# Altium integrated library TI Data Converters Digital to Analog Converter.IntLib: 1533 symbols (part 4 of 99)
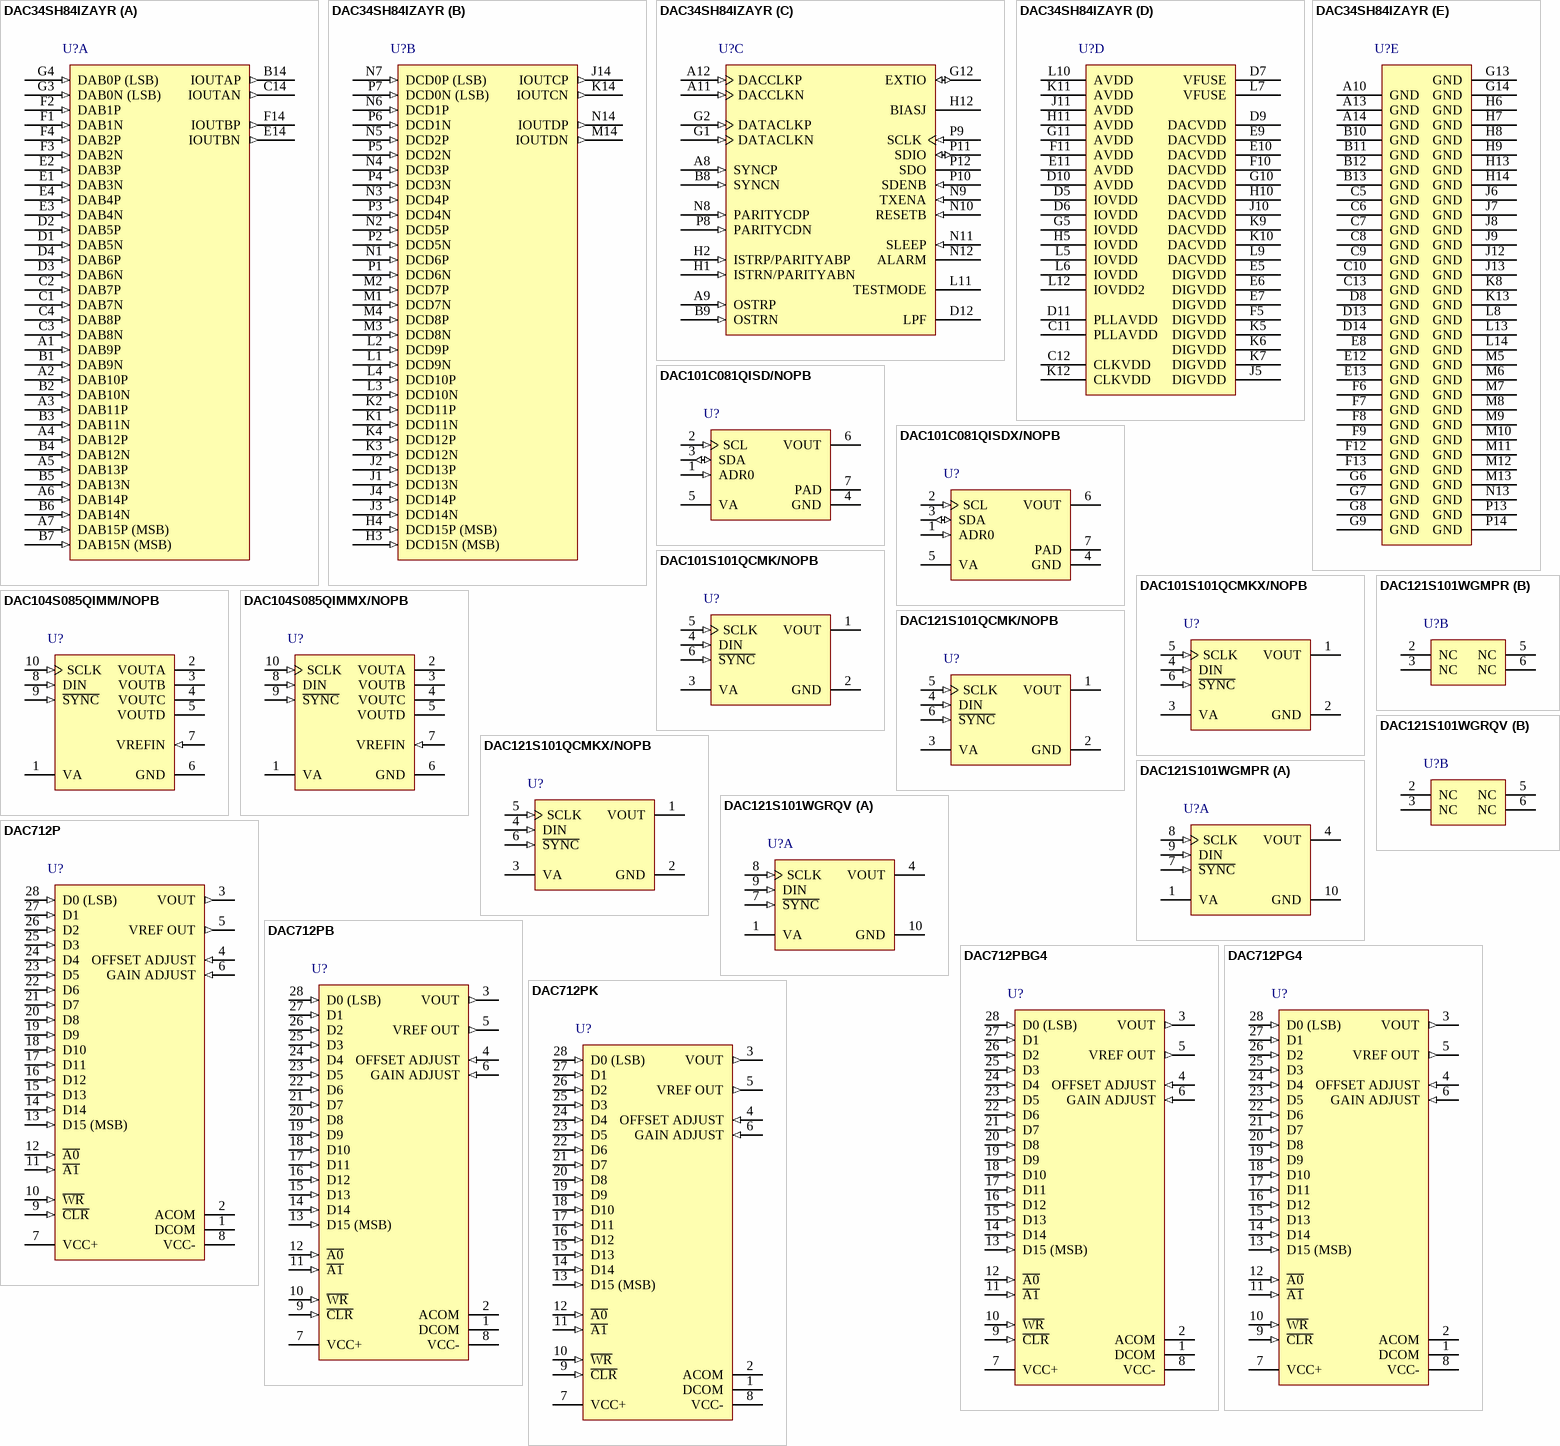
[diagram p76: symbols DAC34SH84IZAYR to DAC712PK]

## DAC34SH84IZAYR
designator U?
Quad-Channel, 16-Bit, 1.5 GSPS DAC, -40 to 85 degC, 196-pin BGA (ZAY196), Green (RoHS & no Sb/Br); Manufacturer: Texas Instruments; PartNumber: DAC34SH84IZAYR; DAC Channels: 4; Interface: Parallel LVDS; Power Consumption(Typ)(mW): 1828; Resolution(Bits): 16; SFDR(dB): 78; SubFamily: High Speed DAC (>10MSPS); DatasheetVersion: SLAS808D; PackageVersion: 4208324-4/C, 09/2010; PackageReference: ZAY196; PackageDescription: 196-Pin Plastic Ball Grid Array, Body 12 x 12 mm, Pitch 0.8 mm; Supplier 1: Digi-Key; Supplier Part Number 1: DAC34SH84IZAYR-ND; Supplier 2: Newark; Supplier Part Number 2: 47W5598; Supplier 3: Mouser; Supplier Part Number 3: 595-DAC34SH84IZAYR; Eco-Plan: Green (RoHS & no Sb/Br); Mounting Technology: Surface Mount; ComponentLink1Description: Manufacturer URL; ComponentLink1URL: http://www.ti.com/; ComponentLink2Description: Datasheet; ComponentLink2URL: http://www.ti.com/general/docs/lit/getliterature.tsp?genericPartNumber=DAC34SH84&fileType=pdf; ComponentLink3Description: Package Specification; ComponentLink3URL: http://www.ti.com/litv/pdf/mpbga11
footprint TI-ZAY196 (BGA, 196-Balls, Body 12x12mm, Pitch 0.8mm)
part A pins: A1 DAB9P (in) "LVDS positive input data bits 0 through 15 for the AB-channel path. Internal 100 ohm termination resistor. Data format relative to DATACLKP/N clock is Double Data Rate (DDR).DAB15P is most significant data bit (MSB) DAB0P is (See Datasheet)", A2 DAB10P (in) "LVDS positive input data bits 0 through 15 for the AB-channel path. Internal 100 ohm termination resistor. Data format relative to DATACLKP/N clock is Double Data Rate (DDR).DAB15P is most significant data bit (MSB) DAB0P is (See Datasheet)", A3 DAB11P (in) "LVDS positive input data bits 0 through 15 for the AB-channel path. Internal 100 ohm termination resistor. Data format relative to DATACLKP/N clock is Double Data Rate (DDR).DAB15P is most significant data bit (MSB) DAB0P is (See Datasheet)", A4 DAB12P (in) "LVDS positive input data bits 0 through 15 for the AB-channel path. Internal 100 ohm termination resistor. Data format relative to DATACLKP/N clock is Double Data Rate (DDR).DAB15P is most significant data bit (MSB) DAB0P is (See Datasheet)", A5 DAB13P (in) "LVDS positive input data bits 0 through 15 for the AB-channel path. Internal 100 ohm termination resistor. Data format relative to DATACLKP/N clock is Double Data Rate (DDR).DAB15P is most significant data bit (MSB) DAB0P is (See Datasheet)", A6 DAB14P (in) "LVDS positive input data bits 0 through 15 for the AB-channel path. Internal 100 ohm termination resistor. Data format relative to DATACLKP/N clock is Double Data Rate (DDR).DAB15P is most significant data bit (MSB) DAB0P is (See Datasheet)", A7 DAB15P (MSB) (in) "LVDS positive input data bits 0 through 15 for the AB-channel path. Internal 100 ohm termination resistor. Data format relative to DATACLKP/N clock is Double Data Rate (DDR).DAB15P is most significant data bit (MSB) DAB0P is (See Datasheet)", B1 DAB9N (in) "LVDS negative input data bits 0 through 15 for the AB-channel path. (See DAB[15:0]P description above)", B2 DAB10N (in) "LVDS negative input data bits 0 through 15 for the AB-channel path. (See DAB[15:0]P description above)", B3 DAB11N (in) "LVDS negative input data bits 0 through 15 for the AB-channel path. (See DAB[15:0]P description above)", B4 DAB12N (in) "LVDS negative input data bits 0 through 15 for the AB-channel path. (See DAB[15:0]P description above)", B5 DAB13N (in) "LVDS negative input data bits 0 through 15 for the AB-channel path. (See DAB[15:0]P description above)", B6 DAB14N (in) "LVDS negative input data bits 0 through 15 for the AB-channel path. (See DAB[15:0]P description above)", B7 DAB15N (MSB) (in) "LVDS negative input data bits 0 through 15 for the AB-channel path. (See DAB[15:0]P description above)", B14 IOUTAP (out) "A-Channel DAC current output. Connect directly to ground if unused.", C1 DAB7N (in) "LVDS negative input data bits 0 through 15 for the AB-channel path. (See DAB[15:0]P description above)", C2 DAB7P (in) "LVDS positive input data bits 0 through 15 for the AB-channel path. Internal 100 ohm termination resistor. Data format relative to DATACLKP/N clock is Double Data Rate (DDR).DAB15P is most significant data bit (MSB) DAB0P is (See Datasheet)", C3 DAB8N (in) "LVDS negative input data bits 0 through 15 for the AB-channel path. (See DAB[15:0]P description above)", C4 DAB8P (in) "LVDS positive input data bits 0 through 15 for the AB-channel path. Internal 100 ohm termination resistor. Data format relative to DATACLKP/N clock is Double Data Rate (DDR).DAB15P is most significant data bit (MSB) DAB0P is (See Datasheet)", C14 IOUTAN (out) "A-Channel DAC complementary current output. Connect directly to ground if unused.", D1 DAB5N (in) "LVDS negative input data bits 0 through 15 for the AB-channel path. (See DAB[15:0]P description above)", D2 DAB5P (in) "LVDS positive input data bits 0 through 15 for the AB-channel path. Internal 100 ohm termination resistor. Data format relative to DATACLKP/N clock is Double Data Rate (DDR).DAB15P is most significant data bit (MSB) DAB0P is (See Datasheet)", D3 DAB6N (in) "LVDS negative input data bits 0 through 15 for the AB-channel path. (See DAB[15:0]P description above)", D4 DAB6P (in) "LVDS positive input data bits 0 through 15 for the AB-channel path. Internal 100 ohm termination resistor. Data format relative to DATACLKP/N clock is Double Data Rate (DDR).DAB15P is most significant data bit (MSB) DAB0P is (See Datasheet)", E1 DAB3N (in) "LVDS negative input data bits 0 through 15 for the AB-channel path. (See DAB[15:0]P description above)", E2 DAB3P (in) "LVDS positive input data bits 0 through 15 for the AB-channel path. Internal 100 ohm termination resistor. Data format relative to DATACLKP/N clock is Double Data Rate (DDR).DAB15P is most significant data bit (MSB) DAB0P is (See Datasheet)", E3 DAB4N (in) "LVDS negative input data bits 0 through 15 for the AB-channel path. (See DAB[15:0]P description above)", E4 DAB4P (in) "LVDS positive input data bits 0 through 15 for the AB-channel path. Internal 100 ohm termination resistor. Data format relative to DATACLKP/N clock is Double Data Rate (DDR).DAB15P is most significant data bit (MSB) DAB0P is (See Datasheet)", E14 IOUTBN (out) "B-Channel DAC complementary current output. Connect directly to ground if unused.", F1 DAB1N (in) "LVDS negative input data bits 0 through 15 for the AB-channel path. (See DAB[15:0]P description above)", F2 DAB1P (in) "LVDS positive input data bits 0 through 15 for the AB-channel path. Internal 100 ohm termination resistor. Data format relative to DATACLKP/N clock is Double Data Rate (DDR).DAB15P is most significant data bit (MSB) DAB0P is (See Datasheet)", F3 DAB2N (in) "LVDS negative input data bits 0 through 15 for the AB-channel path. (See DAB[15:0]P description above)", F4 DAB2P (in) "LVDS positive input data bits 0 through 15 for the AB-channel path. Internal 100 ohm termination resistor. Data format relative to DATACLKP/N clock is Double Data Rate (DDR).DAB15P is most significant data bit (MSB) DAB0P is (See Datasheet)", F14 IOUTBP (out) "B-Channel DAC current output. Connect directly to ground if unused.", G3 DAB0N (LSB) (in) "LVDS negative input data bits 0 through 15 for the AB-channel path. (See DAB[15:0]P description above)", G4 DAB0P (LSB) (in) "LVDS positive input data bits 0 through 15 for the AB-channel path. Internal 100 ohm termination resistor. Data format relative to DATACLKP/N clock is Double Data Rate (DDR).DAB15P is most significant data bit (MSB) DAB0P is (See Datasheet)"
part B pins: H3 DCD15N (MSB) (in) "LVDS negative input data bits 0 through 15 for the CD-channel path. (See DCD[15:0]P description above)", H4 DCD15P (MSB) (in) "LVDS positive input data bits 0 through 15 for the CD-channel path. Internal 100 ohm termination resistor. Data format relative to DATACLKP/N clock is Double Data Rate (DDR).DCD15P is most significant data bit (MSB) DCD0P is (See Datasheet)", J1 DCD13N (in) "LVDS negative input data bits 0 through 15 for the CD-channel path. (See DCD[15:0]P description above)", J2 DCD13P (in) "LVDS positive input data bits 0 through 15 for the CD-channel path. Internal 100 ohm termination resistor. Data format relative to DATACLKP/N clock is Double Data Rate (DDR).DCD15P is most significant data bit (MSB) DCD0P is (See Datasheet)", J3 DCD14N (in) "LVDS negative input data bits 0 through 15 for the CD-channel path. (See DCD[15:0]P description above)", J4 DCD14P (in) "LVDS positive input data bits 0 through 15 for the CD-channel path. Internal 100 ohm termination resistor. Data format relative to DATACLKP/N clock is Double Data Rate (DDR).DCD15P is most significant data bit (MSB) DCD0P is (See Datasheet)", J14 IOUTCP (out) "C-Channel DAC current output. Connect directly to ground if unused.", K1 DCD11N (in) "LVDS negative input data bits 0 through 15 for the CD-channel path. (See DCD[15:0]P description above)", K2 DCD11P (in) "LVDS positive input data bits 0 through 15 for the CD-channel path. Internal 100 ohm termination resistor. Data format relative to DATACLKP/N clock is Double Data Rate (DDR).DCD15P is most significant data bit (MSB) DCD0P is (See Datasheet)", K3 DCD12N (in) "LVDS negative input data bits 0 through 15 for the CD-channel path. (See DCD[15:0]P description above)", K4 DCD12P (in) "LVDS positive input data bits 0 through 15 for the CD-channel path. Internal 100 ohm termination resistor. Data format relative to DATACLKP/N clock is Double Data Rate (DDR).DCD15P is most significant data bit (MSB) DCD0P is (See Datasheet)", K14 IOUTCN (out) "C-Channel DAC complementary current output. Connect directly to ground if unused.", L1 DCD9N (in) "LVDS negative input data bits 0 through 15 for the CD-channel path. (See DCD[15:0]P description above)", L2 DCD9P (in) "LVDS positive input data bits 0 through 15 for the CD-channel path. Internal 100 ohm termination resistor. Data format relative to DATACLKP/N clock is Double Data Rate (DDR).DCD15P is most significant data bit (MSB) DCD0P is (See Datasheet)", L3 DCD10N (in) "LVDS negative input data bits 0 through 15 for the CD-channel path. (See DCD[15:0]P description above)", L4 DCD10P (in) "LVDS positive input data bits 0 through 15 for the CD-channel path. Internal 100 ohm termination resistor. Data format relative to DATACLKP/N clock is Double Data Rate (DDR).DCD15P is most significant data bit (MSB) DCD0P is (See Datasheet)", M1 DCD7N (in) "LVDS negative input data bits 0 through 15 for the CD-channel path. (See DCD[15:0]P description above)", M2 DCD7P (in) "LVDS positive input data bits 0 through 15 for the CD-channel path. Internal 100 ohm termination resistor. Data format relative to DATACLKP/N clock is Double Data Rate (DDR).DCD15P is most significant data bit (MSB) DCD0P is (See Datasheet)", M3 DCD8N (in) "LVDS negative input data bits 0 through 15 for the CD-channel path. (See DCD[15:0]P description above)", M4 DCD8P (in) "LVDS positive input data bits 0 through 15 for the CD-channel path. Internal 100 ohm termination resistor. Data format relative to DATACLKP/N clock is Double Data Rate (DDR).DCD15P is most significant data bit (MSB) DCD0P is (See Datasheet)", M14 IOUTDN (out) "D-Channel DAC complementary current output. Connect directly to ground if unused.", N1 DCD6P (in) "LVDS positive input data bits 0 through 15 for the CD-channel path. Internal 100 ohm termination resistor. Data format relative to DATACLKP/N clock is Double Data Rate (DDR).DCD15P is most significant data bit (MSB) DCD0P is (See Datasheet)", N2 DCD5P (in) "LVDS positive input data bits 0 through 15 for the CD-channel path. Internal 100 ohm termination resistor. Data format relative to DATACLKP/N clock is Double Data Rate (DDR).DCD15P is most significant data bit (MSB) DCD0P is (See Datasheet)", N3 DCD4P (in) "LVDS positive input data bits 0 through 15 for the CD-channel path. Internal 100 ohm termination resistor. Data format relative to DATACLKP/N clock is Double Data Rate (DDR).DCD15P is most significant data bit (MSB) DCD0P is (See Datasheet)", N4 DCD3P (in) "LVDS positive input data bits 0 through 15 for the CD-channel path. Internal 100 ohm termination resistor. Data format relative to DATACLKP/N clock is Double Data Rate (DDR).DCD15P is most significant data bit (MSB) DCD0P is (See Datasheet)", N5 DCD2P (in) "LVDS positive input data bits 0 through 15 for the CD-channel path. Internal 100 ohm termination resistor. Data format relative to DATACLKP/N clock is Double Data Rate (DDR).DCD15P is most significant data bit (MSB) DCD0P is (See Datasheet)", N6 DCD1P (in) "LVDS positive input data bits 0 through 15 for the CD-channel path. Internal 100 ohm termination resistor. Data format relative to DATACLKP/N clock is Double Data Rate (DDR).DCD15P is most significant data bit (MSB) DCD0P is (See Datasheet)", N7 DCD0P (LSB) (in) "LVDS positive input data bits 0 through 15 for the CD-channel path. Internal 100 ohm termination resistor. Data format relative to DATACLKP/N clock is Double Data Rate (DDR).DCD15P is most significant data bit (MSB) DCD0P is (See Datasheet)", N14 IOUTDP (out) "D-Channel DAC current output. Connect directly to ground if unused.", P1 DCD6N (in) "LVDS negative input data bits 0 through 15 for the CD-channel path. (See DCD[15:0]P description above)", P2 DCD5N (in) "LVDS negative input data bits 0 through 15 for the CD-channel path. (See DCD[15:0]P description above)", P3 DCD4N (in) "LVDS negative input data bits 0 through 15 for the CD-channel path. (See DCD[15:0]P description above)", P4 DCD3N (in) "LVDS negative input data bits 0 through 15 for the CD-channel path. (See DCD[15:0]P description above)", P5 DCD2N (in) "LVDS negative input data bits 0 through 15 for the CD-channel path. (See DCD[15:0]P description above)", P6 DCD1N (in) "LVDS negative input data bits 0 through 15 for the CD-channel path. (See DCD[15:0]P description above)", P7 DCD0N (LSB) (in) "LVDS negative input data bits 0 through 15 for the CD-channel path. (See DCD[15:0]P description above)"
part C pins: A8 SYNCP (in) "LVDS SYNC positive input. Internal 100 ohm termination resistor. If unused it can be left unconnected. The PARITY, SYNC, and ISTR inputs are rotated to allow complete reversal of the data interface when setting the (See Datasheet)", A9 OSTRP (in) "Optional LVPECL output strobe positive input. This positive/negative pair is captured with the rising edge of DACCLKP/N. It is used to sync the divided-down clocks and FIFO output pointer in Dual Sync Sources Mode. If unused (See Datasheet)", A11 DACCLKN (in) "Complementary external LVPECL clock input for DAC core. (see the DACCLKP description)", A12 DACCLKP (in) "Positive external LVPECL clock input for DAC core with a self-bias.", B8 SYNCN (in) "LVDS SYNC negative input.", B9 OSTRN (in) "Optional LVPECL output strobe negative input. (See the OSTRP description)", D12 LPF "PLL loop filter connection. If not using the clock multiplying PLL, the LPF pin can be left unconnected.", G1 DATACLKN (in) "LVDS negative input data clock. (See DATACLKP description)", G2 DATACLKP (in) "LVDS positive input data clock. Internal 100 ohm termination resistor. Input data DAB[15:0]P/N and DCD[15:0]P/N are latched on both edges of DATACLKP/N (Double Data Rate).", G12 EXTIO (io) "Used as external reference input when internal reference is disabled through config27 extref_ena = ‘1’. Used as internal reference output when config27 extref_ena = ‘0’ (default). Requires a 0.1 uF dec(See Datasheet)", H1 ISTRN/PARITYABN (in) "LVDS input strope negative input. (See the ISTRP/PARITYABP description)", H2 ISTRP/PARITYABP (in) "LVDS input strobe positive input. Internal 100 ohm termination resistor. The main functions of this input are to sync the FIFO pointer, to provide a sync source to the digital blocks, and/or to act as a parity input for the (See Datasheet)", H12 BIASJ "Full-scale output current bias. For 30mA full-scale output current, connect 1.28kohm to ground. Change the full-scale output current through coarse_dac(3:0) in config3, bit<15:12>", L11 TESTMODE "This pin is used for factory testing. Internal pull-down. Leave unconnected for normal operation.", N8 PARITYCDP (in) "Optional LVDS positive input parity bit for the CD-data bus. The PARITYCDP/N LVDS pair has an internal 100 ohm termination resistor. If unused it can be left unconnected. The PARITY, SYNC, and ISTR inputs are rotated to (See Datasheet)", N9 TXENA (in) "Transmit enable active high input. Internal pull-down. To enable analog output data transmission, set sif_txenable in register config3 to “1” or pull CMOS TXENA pin to high. To disable analog output, set sif_txenable(See Datasheet)", N10 RESETB (in) "Active low input for chip RESET. Internal pull-up.", N11 SLEEP (in) "Active high asynchronous hardware power-down input. Internal pull-down.", N12 ALARM (hiz) "CMOS output for ALARM condition. The ALARM output functionality is defined through the config7 register. Default polarity is active high, but can be changed to active low via config0 alarm_out_pol control bit.", P8 PARITYCDN (in) "Optional LVDS negative input parity bit for the CD-data bus.", P9 SCLK (in) "Serial interface clock. Internal pull-down.", P10 SDENB (in) "Active low serial data enable, always an input to the DAC34H84. Internal pull-up.", P11 SDIO (io) "Serial interface data. Bi-directional in 3-pin mode (default) and uni-directional 4-pin mode. Internal pull-down.", P12 SDO (hiz) "Uni-directional serial interface data in 4-pin mode. The SDO pin is tri-stated in 3-pin interface mode (default)."
part D pins: C11 PLLAVDD (power) "PLL analog supply voltage. (3.3 V)", C12 CLKVDD (power) "Internal clock buffer supply voltage. (1.2 V). It is recommended to isolate this supply from DIGVDD and DACVDD.", D5 IOVDD (power) "Supply voltage for all LVDS I/O. (3.3 V)", D6 IOVDD (power) "Supply voltage for all LVDS I/O. (3.3 V)", D7 VFUSE (power) "Digital supply voltage. This supply pin is also used for factory fuse programming. Connect to DACVDD or DIGVDD for normal operation.", D9 DACVDD (power) "DAC core supply voltage. (1.2 V). It is recommended to isolate this supply from CLKVDD and DIGVDD.", D10 AVDD (power) "Analog supply voltage. (3.3 V)", D11 PLLAVDD (power) "PLL analog supply voltage. (3.3 V)", E5 DIGVDD (power) "Digital supply voltage. (1.2 V). It is recommended to isolate this supply from CLKVDD and DACVDD.", E6 DIGVDD (power) "Digital supply voltage. (1.2 V). It is recommended to isolate this supply from CLKVDD and DACVDD.", E7 DIGVDD (power) "Digital supply voltage. (1.2 V). It is recommended to isolate this supply from CLKVDD and DACVDD.", E9 DACVDD (power) "DAC core supply voltage. (1.2 V). It is recommended to isolate this supply from CLKVDD and DIGVDD.", E10 DACVDD (power) "DAC core supply voltage. (1.2 V). It is recommended to isolate this supply from CLKVDD and DIGVDD.", E11 AVDD (power) "Analog supply voltage. (3.3 V)", F5 DIGVDD (power) "Digital supply voltage. (1.2 V). It is recommended to isolate this supply from CLKVDD and DACVDD.", F10 DACVDD (power) "DAC core supply voltage. (1.2 V). It is recommended to isolate this supply from CLKVDD and DIGVDD.", F11 AVDD (power) "Analog supply voltage. (3.3 V)", G5 IOVDD (power) "Supply voltage for all LVDS I/O. (3.3 V)", G10 DACVDD (power) "DAC core supply voltage. (1.2 V). It is recommended to isolate this supply from CLKVDD and DIGVDD.", G11 AVDD (power) "Analog supply voltage. (3.3 V)", H5 IOVDD (power) "Supply voltage for all LVDS I/O. (3.3 V)", H10 DACVDD (power) "DAC core supply voltage. (1.2 V). It is recommended to isolate this supply from CLKVDD and DIGVDD.", H11 AVDD (power) "Analog supply voltage. (3.3 V)", J5 DIGVDD (power) "Digital supply voltage. (1.2 V). It is recommended to isolate this supply from CLKVDD and DACVDD.", J10 DACVDD (power) "DAC core supply voltage. (1.2 V). It is recommended to isolate this supply from CLKVDD and DIGVDD.", J11 AVDD (power) "Analog supply voltage. (3.3 V)", K5 DIGVDD (power) "Digital supply voltage. (1.2 V). It is recommended to isolate this supply from CLKVDD and DACVDD.", K6 DIGVDD (power) "Digital supply voltage. (1.2 V). It is recommended to isolate this supply from CLKVDD and DACVDD.", K7 DIGVDD (power) "Digital supply voltage. (1.2 V). It is recommended to isolate this supply from CLKVDD and DACVDD.", K9 DACVDD (power) "DAC core supply voltage. (1.2 V). It is recommended to isolate this supply from CLKVDD and DIGVDD.", K10 DACVDD (power) "DAC core supply voltage. (1.2 V). It is recommended to isolate this supply from CLKVDD and DIGVDD.", K11 AVDD (power) "Analog supply voltage. (3.3 V)", K12 CLKVDD (power) "Internal clock buffer supply voltage. (1.2 V). It is recommended to isolate this supply from DIGVDD and DACVDD.", L5 IOVDD (power) "Supply voltage for all LVDS I/O. (3.3 V)", L6 IOVDD (power) "Supply voltage for all LVDS I/O. (3.3 V)", L7 VFUSE (power) "Digital supply voltage. This supply pin is also used for factory fuse programming. Connect to DACVDD or DIGVDD for normal operation.", L9 DACVDD (power) "DAC core supply voltage. (1.2 V). It is recommended to isolate this supply from CLKVDD and DIGVDD.", L10 AVDD (power) "Analog supply voltage. (3.3 V)", L12 IOVDD2 (power) "Supply voltage for all CMOS I/O. (1.8 to 3.3V) This supply can range from 1.8V to 3.3V to change the input and output level of the CMOS I/O."
part E pins: A10 GND (power) "These pins are ground for all supplies.", A13 GND (power) "These pins are ground for all supplies.", A14 GND (power) "These pins are ground for all supplies.", B10 GND (power) "These pins are ground for all supplies.", B11 GND (power) "These pins are ground for all supplies.", B12 GND (power) "These pins are ground for all supplies.", B13 GND (power) "These pins are ground for all supplies.", C5 GND (power) "These pins are ground for all supplies.", C6 GND (power) "These pins are ground for all supplies.", C7 GND (power) "These pins are ground for all supplies.", C8 GND (power) "These pins are ground for all supplies.", C9 GND (power) "These pins are ground for all supplies.", C10 GND (power) "These pins are ground for all supplies.", C13 GND (power) "These pins are ground for all supplies.", D8 GND (power) "These pins are ground for all supplies.", D13 GND (power) "These pins are ground for all supplies.", D14 GND (power) "These pins are ground for all supplies.", E8 GND (power) "These pins are ground for all supplies.", E12 GND (power) "These pins are ground for all supplies.", E13 GND (power) "These pins are ground for all supplies.", F6 GND (power) "These pins are ground for all supplies.", F7 GND (power) "These pins are ground for all supplies.", F8 GND (power) "These pins are ground for all supplies.", F9 GND (power) "These pins are ground for all supplies.", F12 GND (power) "These pins are ground for all supplies.", F13 GND (power) "These pins are ground for all supplies.", G6 GND (power) "These pins are ground for all supplies.", G7 GND (power) "These pins are ground for all supplies.", G8 GND (power) "These pins are ground for all supplies.", G9 GND (power) "These pins are ground for all supplies.", G13 GND (power) "These pins are ground for all supplies.", G14 GND (power) "These pins are ground for all supplies.", H6 GND (power) "These pins are ground for all supplies.", H7 GND (power) "These pins are ground for all supplies.", H8 GND (power) "These pins are ground for all supplies.", H9 GND (power) "These pins are ground for all supplies.", H13 GND (power) "These pins are ground for all supplies.", H14 GND (power) "These pins are ground for all supplies.", J6 GND (power) "These pins are ground for all supplies.", J7 GND (power) "These pins are ground for all supplies.", J8 GND (power) "These pins are ground for all supplies.", J9 GND (power) "These pins are ground for all supplies.", J12 GND (power) "These pins are ground for all supplies.", J13 GND (power) "These pins are ground for all supplies.", K8 GND (power) "These pins are ground for all supplies.", K13 GND (power) "These pins are ground for all supplies.", L8 GND (power) "These pins are ground for all supplies.", L13 GND (power) "These pins are ground for all supplies.", L14 GND (power) "These pins are ground for all supplies.", M5 GND (power) "These pins are ground for all supplies.", M6 GND (power) "These pins are ground for all supplies.", M7 GND (power) "These pins are ground for all supplies.", M8 GND (power) "These pins are ground for all supplies.", M9 GND (power) "These pins are ground for all supplies.", M10 GND (power) "These pins are ground for all supplies.", M11 GND (power) "These pins are ground for all supplies.", M12 GND (power) "These pins are ground for all supplies.", M13 GND (power) "These pins are ground for all supplies.", N13 GND (power) "These pins are ground for all supplies.", P13 GND (power) "These pins are ground for all supplies.", P14 GND (power) "These pins are ground for all supplies."

## DAC101C081QISD/NOPB
designator U?
10-Bit Micro Power Digital-to-Analog Converter, -40 to 125 degC, 6-pin SON (NGF6), Green (RoHS & no Sb/Br); Manufacturer: Texas Instruments; PartNumber: DAC101C081QISD/NOPB; DAC Channels: 1; DNL(Max)(+/-LSB): 0.3; INL(Max)(+/-LSB): 2; Power Consumption(Typ)(mW): 0.81; Resolution(Bits): 10; Settling Time(us): 6; SubFamily: Precision DAC (=<10MSPS); DatasheetVersion: SNVS801A; PackageVersion: Rev. A, 08/2012; PackageReference: NGF6-1200X750TP; PackageDescription: 6-Pin Plastic Small Outline, Body 2.5 x 2.2 mm, Pitch 0.65 mm; Supplier 1: Digi-Key; Supplier Part Number 1: DAC101C081QISD/NOPB-ND; Supplier 2: Newark; Supplier Part Number 2: 45W2230; Supplier 3: Mouser; Supplier Part Number 3: 595-AC101C081QISDNPB; Eco-Plan: Green (RoHS & no Sb/Br); Mounting Technology: Surface Mount; ComponentLink1Description: Manufacturer URL; ComponentLink1URL: http://www.ti.com/; ComponentLink2Description: Datasheet; ComponentLink2URL: http://www.ti.com/lit/ds/symlink/dac101c081q.pdf; ComponentLink3Description: Package Specification; ComponentLink3URL: http://www.ti.com/litv/pdf/mpds394
footprint TI-NGF6-1200X750TP_V (SON, 6-Leads, Body 2.5x2.2mm, Pitch 0.65mm, Thermal Pad 0.75x1.2mm)
pins: 1 ADR0 (in) "Tri-state Address Selection Input. Sets the two Least Significant Bits (A1 & A0) of the 7-bit slave address", 2 SCL (in) "Serial Clock Input. SCL is used together with SDA to control the transfer of data in and out of the device.", 3 SDA (io) "Serial Data bi-directional connection. Data is clocked into or out of the internal 16-bit register relative to the clock edges of SCL. This is an open drain data line that must be pulled to the supply (VA) by an external (See Datasheet)", 4 GND (power) "Ground for all on-chip circuitry.", 5 VA (power) "Power supply input. For the SOT and WSON versions, this supply is used as the reference. Must be decoupled to GND.", 6 VOUT (hiz) "Analog Output Voltage", 7 PAD (power) "Exposed die attach pad can be connected to ground or left floating. Soldering the pad to the PCB offers optimal thermal performance and enhances package self-alignment during reflow."

## DAC101C081QISDX/NOPB
designator U?
10-Bit Micro Power Digital-to-Analog Converter, -40 to 125 degC, 6-pin SON (NGF6), Green (RoHS & no Sb/Br); Manufacturer: Texas Instruments; PartNumber: DAC101C081QISDX/NOPB; DAC Channels: 1; DNL(Max)(+/-LSB): 0.3; INL(Max)(+/-LSB): 2; Power Consumption(Typ)(mW): 0.38; Resolution(Bits): 10; Settling Time(us): 6; SubFamily: Precision DAC (=<10MSPS); DatasheetVersion: SNVS801A; PackageVersion: Rev. A, 08/2012; PackageReference: NGF6-1200X750TP; PackageDescription: 6-Pin Plastic Small Outline, Body 2.5 x 2.2 mm, Pitch 0.65 mm; Supplier 1: Digi-Key; Supplier Part Number 1: DAC101C081QISDX/NOPB-ND; Supplier 2: Newark; Supplier Part Number 2: 45W2231; Supplier 3: Mouser; Supplier Part Number 3: 595-C101C081QISDXNPB; Eco-Plan: Green (RoHS & no Sb/Br); Mounting Technology: Surface Mount; ComponentLink1Description: Manufacturer URL; ComponentLink1URL: http://www.ti.com/; ComponentLink2Description: Datasheet; ComponentLink2URL: http://www.ti.com/lit/ds/symlink/dac101c081q.pdf; ComponentLink3Description: Package Specification; ComponentLink3URL: http://www.ti.com/litv/pdf/mpds394
footprint TI-NGF6-1200X750TP_V (SON, 6-Leads, Body 2.5x2.2mm, Pitch 0.65mm, Thermal Pad 0.75x1.2mm)
pins: 1 ADR0 (in) "Tri-state Address Selection Input. Sets the two Least Significant Bits (A1 & A0) of the 7-bit slave address", 2 SCL (in) "Serial Clock Input. SCL is used together with SDA to control the transfer of data in and out of the device.", 3 SDA (io) "Serial Data bi-directional connection. Data is clocked into or out of the internal 16-bit register relative to the clock edges of SCL. This is an open drain data line that must be pulled to the supply (VA) by an external (See Datasheet)", 4 GND (power) "Ground for all on-chip circuitry.", 5 VA (power) "Power supply input. For the SOT and WSON versions, this supply is used as the reference. Must be decoupled to GND.", 6 VOUT (hiz) "Analog Output Voltage", 7 PAD (power) "Exposed die attach pad can be connected to ground or left floating. Soldering the pad to the PCB offers optimal thermal performance and enhances package self-alignment during reflow."

## DAC101S101QCMK/NOPB
designator U?
10-Bit Micro Power, RRO Digital-to-Analog Converter, -40 to 125 degC, 6-pin SOT23 (DDC6), Green (RoHS & no Sb/Br); Manufacturer: Texas Instruments; PartNumber: DAC101S101QCMK/NOPB; DAC Channels: 1; DNL(Max)(+/-LSB): 0.35; INL(Max)(+/-LSB): 2.8; Power Consumption(Typ)(mW): 0.63; Resolution(Bits): 10; Settling Time(us): 7.5; SubFamily: Precision DAC (=<10MSPS); DatasheetVersion: SNAS321F; PackageVersion: 4204403-3/E, 06/2005; PackageReference: DDC6; PackageDescription: 6-Pin Plastic Small Outline, Body 2.9 x 1.6 mm, 0.95 mm Pitch; Supplier 1: Digi-Key; Supplier Part Number 1: 296-35566-2-ND; Supplier 2: Digi-Key; Supplier Part Number 2: 296-35566-1-ND; Supplier 3: Digi-Key; Supplier Part Number 3: 296-35566-6-ND; Supplier 4: Newark; Supplier Part Number 4: 19P7820; Supplier 5: Mouser; Supplier Part Number 5: 926-DA101S101QCMKNPB; Eco-Plan: Green (RoHS & no Sb/Br); Mounting Technology: Surface Mount; Code_JEDEC: MO-193; ComponentLink1Description: Manufacturer URL; ComponentLink1URL: http://www.ti.com/; ComponentLink2Description: Datasheet; ComponentLink2URL: http://www.ti.com/lit/ds/symlink/dac101s101-q1.pdf; ComponentLink3Description: Package Specification; ComponentLink3URL: http://www.ti.com/litv/pdf/mpds124d
footprint TI-DDC6_N (SOT23, 6-Leads, Body 2.9x1.6mm, Pitch 0.95mm, IPC Medium Density)
footprint TI-DDC6_L (SOT23, 6-Leads, Body 2.9x1.6mm, Pitch 0.95mm, IPC High Density)
footprint TI-DDC6_M (SOT23, 6-Leads, Body 2.9x1.6mm, Pitch 0.95mm, IPC Low Density)
pins: 1 VOUT (hiz) "DAC Analog Output Voltage", 2 GND (power) "Ground reference for all on-chip circuitry.", 3 VA (power) "Power supply and Reference input. Should be decoupled to GND.", 4 DIN (in) "Serial Data Input. Data is clocked into the 16-bit shift register on the falling edges of SCLK after the fall of S\Y\N\C\.", 5 SCLK (in) "Serial Clock Input. Data is clocked into the input shift register on the falling edges of this pin.", 6 ~{SYNC} (in) "Frame synchronization input for the data input. When this pin goes low, it enables the input shift register and data is transferred on the falling edges of SCLK. The DAC is updated on the 16th clock cycle unless S\Y\N\C\ is (See Datasheet)"

## DAC101S101QCMKX/NOPB
designator U?
10-Bit Micro Power, RRO Digital-to-Analog Converter, -40 to 125 degC, 6-pin SOT23 (DDC6), Green (RoHS & no Sb/Br); Manufacturer: Texas Instruments; PartNumber: DAC101S101QCMKX/NOPB; DAC Channels: 1; DNL(Max)(+/-LSB): 0.35; INL(Max)(+/-LSB): 2.8; Power Consumption(Typ)(mW): 0.63; Resolution(Bits): 10; Settling Time(us): 7.5; SubFamily: Precision DAC (=<10MSPS); DatasheetVersion: SNAS321F; PackageVersion: 4204403-3/E, 06/2005; PackageReference: DDC6; PackageDescription: 6-Pin Plastic Small Outline, Body 2.9 x 1.6 mm, 0.95 mm Pitch; Supplier 1: Digi-Key; Supplier Part Number 1: DAC101S101QCMKX/NOPB-ND; Supplier 2: Mouser; Supplier Part Number 2: 926-D101S101QCMKXNPB; Eco-Plan: Green (RoHS & no Sb/Br); Mounting Technology: Surface Mount; Code_JEDEC: MO-193; ComponentLink1Description: Manufacturer URL; ComponentLink1URL: http://www.ti.com/; ComponentLink2Description: Datasheet; ComponentLink2URL: http://www.ti.com/lit/ds/symlink/dac101s101-q1.pdf; ComponentLink3Description: Package Specification; ComponentLink3URL: http://www.ti.com/litv/pdf/mpds124d
footprint TI-DDC6_N (SOT23, 6-Leads, Body 2.9x1.6mm, Pitch 0.95mm, IPC Medium Density)
footprint TI-DDC6_L (SOT23, 6-Leads, Body 2.9x1.6mm, Pitch 0.95mm, IPC High Density)
footprint TI-DDC6_M (SOT23, 6-Leads, Body 2.9x1.6mm, Pitch 0.95mm, IPC Low Density)
pins: 1 VOUT (hiz) "DAC Analog Output Voltage", 2 GND (power) "Ground reference for all on-chip circuitry.", 3 VA (power) "Power supply and Reference input. Should be decoupled to GND.", 4 DIN (in) "Serial Data Input. Data is clocked into the 16-bit shift register on the falling edges of SCLK after the fall of S\Y\N\C\.", 5 SCLK (in) "Serial Clock Input. Data is clocked into the input shift register on the falling edges of this pin.", 6 ~{SYNC} (in) "Frame synchronization input for the data input. When this pin goes low, it enables the input shift register and data is transferred on the falling edges of SCLK. The DAC is updated on the 16th clock cycle unless S\Y\N\C\ is (See Datasheet)"

## DAC104S085QIMM/NOPB
designator U?
Automotive 10-Bit Micro Power QUAD Digital-to-Analog Converter with Rail-to-Rail Output, -40 to 125 degC, 10-pin SOP (DGS10), Green (RoHS & no Sb/Br); Manufacturer: Texas Instruments; PartNumber: DAC104S085QIMM/NOPB; DAC Channels: 4; DNL(Max)(+/-LSB): 0.35; INL(Max)(+/-LSB): 2; Power Consumption(Typ)(mW): 1.1; Resolution(Bits): 10; Settling Time(us): 6; SubFamily: Precision DAC (=<10MSPS); DatasheetVersion: SNAS362F; PackageVersion: 4073272/C, 02/2004; PackageReference: DGS10; PackageDescription: 10-Pin Plastic Small Outline, Body 3 x 3 mm, Pitch 0.5 mm; Supplier 1: Digi-Key; Supplier Part Number 1: DAC104S085QIMM/NOPB-ND; Supplier 2: Newark; Supplier Part Number 2: 55W6162; Supplier 3: Mouser; Supplier Part Number 3: 595-AC104S085QIMMNPB; Eco-Plan: Green (RoHS & no Sb/Br); Mounting Technology: Surface Mount; Code_JEDEC: MO-153; ComponentLink1Description: Manufacturer URL; ComponentLink1URL: http://www.ti.com/; ComponentLink2Description: Datasheet; ComponentLink2URL: http://www.ti.com/lit/ds/symlink/dac104s085-q1.pdf; ComponentLink3Description: Package Specification; ComponentLink3URL: http://www.ti.com/lit/ml/mpds035b/mpds035b.pdf
footprint TI-DGS10_N (SOP, 10-Leads, Body 3x3mm, Pitch 0.5mm, IPC Medium Density)
footprint TI-DGS10_L (SOP, 10-Leads, Body 3x3mm, Pitch 0.5mm, IPC High Density)
footprint TI-DGS10_M (SOP, 10-Leads, Body 3x3mm, Pitch 0.5mm, IPC Low Density)
pins: 1 VA (power) "Power supply input. Must be decoupled to GND.", 2 VOUTA (hiz) "Channel A Analog Output Voltage.", 3 VOUTB (hiz) "Channel B Analog Output Voltage.", 4 VOUTC (hiz) "Channel C Analog Output Voltage.", 5 VOUTD (hiz) "Channel D Analog Output Voltage.", 6 GND (power) "Ground reference for all on-chip circuitry.", 7 VREFIN (in) "Unbuffered reference voltage shared by all channels. Must be decoupled to GND.", 8 DIN (in) "Serial Data Input. Data is clocked into the 16-bit shift register on the falling edges of SCLK after the fall of S\Y\N\C\.", 9 ~{SYNC} (in) "Frame synchronization input for the data input. When this pin goes low, it enables the input shift register and data is transferred on the falling edges  Digital Input of SCLK. The DAC is updated on the 16th clock cycle (See Datasheet)", 10 SCLK (in) "Serial Clock Input. Data is clocked into the input shift register on the falling edges of this pin."

## DAC104S085QIMMX/NOPB
designator U?
Automotive 10-Bit Micro Power QUAD Digital-to-Analog Converter with Rail-to-Rail Output, -40 to 125 degC, 10-pin SOP (DGS10), Green (RoHS & no Sb/Br); Manufacturer: Texas Instruments; PartNumber: DAC104S085QIMMX/NOPB; DAC Channels: 4; DNL(Max)(+/-LSB): 0.35; INL(Max)(+/-LSB): 2; Power Consumption(Typ)(mW): 1.1; Resolution(Bits): 10; Settling Time(us): 6; SubFamily: Precision DAC (=<10MSPS); DatasheetVersion: SNAS362F; PackageVersion: 4073272/C, 02/2004; PackageReference: DGS10; PackageDescription: 10-Pin Plastic Small Outline, Body 3 x 3 mm, Pitch 0.5 mm; Supplier 1: Digi-Key; Supplier Part Number 1: DAC104S085QIMMX/NOPB-ND; Supplier 2: Newark; Supplier Part Number 2: 55W6163; Supplier 3: Mouser; Supplier Part Number 3: 595-C104S085QIMMXNPB; Eco-Plan: Green (RoHS & no Sb/Br); Mounting Technology: Surface Mount; Code_JEDEC: MO-153; ComponentLink1Description: Manufacturer URL; ComponentLink1URL: http://www.ti.com/; ComponentLink2Description: Datasheet; ComponentLink2URL: http://www.ti.com/lit/ds/symlink/dac104s085-q1.pdf; ComponentLink3Description: Package Specification; ComponentLink3URL: http://www.ti.com/lit/ml/mpds035b/mpds035b.pdf
footprint TI-DGS10_N (SOP, 10-Leads, Body 3x3mm, Pitch 0.5mm, IPC Medium Density)
footprint TI-DGS10_L (SOP, 10-Leads, Body 3x3mm, Pitch 0.5mm, IPC High Density)
footprint TI-DGS10_M (SOP, 10-Leads, Body 3x3mm, Pitch 0.5mm, IPC Low Density)
pins: 1 VA (power) "Power supply input. Must be decoupled to GND.", 2 VOUTA (hiz) "Channel A Analog Output Voltage.", 3 VOUTB (hiz) "Channel B Analog Output Voltage.", 4 VOUTC (hiz) "Channel C Analog Output Voltage.", 5 VOUTD (hiz) "Channel D Analog Output Voltage.", 6 GND (power) "Ground reference for all on-chip circuitry.", 7 VREFIN (in) "Unbuffered reference voltage shared by all channels. Must be decoupled to GND.", 8 DIN (in) "Serial Data Input. Data is clocked into the 16-bit shift register on the falling edges of SCLK after the fall of S\Y\N\C\.", 9 ~{SYNC} (in) "Frame synchronization input for the data input. When this pin goes low, it enables the input shift register and data is transferred on the falling edges  Digital Input of SCLK. The DAC is updated on the 16th clock cycle (See Datasheet)", 10 SCLK (in) "Serial Clock Input. Data is clocked into the input shift register on the falling edges of this pin."

## DAC121S101QCMK/NOPB
designator U?
12-Bit Micro Power, RRO Digital-to-Analog Converter, -40 to 125 degC, 6-pin SOT23 (DDC6), Green (RoHS & no Sb/Br); Manufacturer: Texas Instruments; PartNumber: DAC121S101QCMK/NOPB; DAC Channels: 1; INL(Max)(+/-LSB): 8; Power Consumption(Typ)(mW): 0.64; Resolution(Bits): 12; SubFamily: Precision DAC (=<10MSPS); DatasheetVersion: SNAS265I; PackageVersion: 4204403-3/E, 06/2005; PackageReference: DDC6; PackageDescription: 6-Pin Plastic Small Outline, Body 2.9 x 1.6 mm, 0.95 mm Pitch; Supplier 1: Digi-Key; Supplier Part Number 1: DAC121S101QCMK/NOPBTR-ND; Supplier 2: Digi-Key; Supplier Part Number 2: DAC121S101QCMK/NOPBCT-ND; Supplier 3: Digi-Key; Supplier Part Number 3: DAC121S101QCMK/NOPBDKR-ND; Supplier 4: Newark; Supplier Part Number 4: 71R5090; Supplier 5: Mouser; Supplier Part Number 5: 926-DA121S101QCMKNPB; DNL(Max)(+/-LSB): 1; Eco-Plan: Green (RoHS & no Sb/Br); Settling Time(us): 8; Mounting Technology: Surface Mount; Code_JEDEC: MO-193; ComponentLink1Description: Manufacturer URL; ComponentLink1URL: http://www.ti.com/; ComponentLink2Description: Datasheet; ComponentLink2URL: http://www.ti.com/lit/ds/symlink/dac121s101-q1.pdf; ComponentLink3Description: Package Specification; ComponentLink3URL: http://www.ti.com/litv/pdf/mpds124d
footprint TI-DDC6_N (SOT23, 6-Leads, Body 2.9x1.6mm, Pitch 0.95mm, IPC Medium Density)
footprint TI-DDC6_L (SOT23, 6-Leads, Body 2.9x1.6mm, Pitch 0.95mm, IPC High Density)
footprint TI-DDC6_M (SOT23, 6-Leads, Body 2.9x1.6mm, Pitch 0.95mm, IPC Low Density)
pins: 1 VOUT (hiz) "DAC Analog Output Voltage", 2 GND (power) "Ground reference for all on-chip circuitry.", 3 VA (power) "Power supply and Reference input. Should be decoupled to GND.", 4 DIN (in) "Serial Data Input. Data is clocked into the 16-bit shift register on the falling edges of SCLK after the fall of S\Y\N\C\.", 5 SCLK (in) "Serial Clock Input. Data is clocked into the input shift register on the falling edges of this pin.", 6 ~{SYNC} (in) "Frame synchronization input for the data input. When this pin goes low, it enables the input shift register and data is transferred on the falling edges of SCLK. The DAC is updated on the 16th clock cycle unless S\Y\N\C\ is (See Datasheet)"

## DAC121S101QCMKX/NOPB
designator U?
12-Bit Micro Power, RRO Digital-to-Analog Converter, -40 to 125 degC, 6-pin SOT23 (DDC6), Green (RoHS & no Sb/Br); Manufacturer: Texas Instruments; PartNumber: DAC121S101QCMKX/NOPB; DAC Channels: 1; INL(Max)(+/-LSB): 8; Power Consumption(Typ)(mW): 0.64; Resolution(Bits): 12; SubFamily: Precision DAC (=<10MSPS); DatasheetVersion: SNAS265I; PackageVersion: 4204403-3/E, 06/2005; PackageReference: DDC6; PackageDescription: 6-Pin Plastic Small Outline, Body 2.9 x 1.6 mm, 0.95 mm Pitch; Supplier 1: Digi-Key; Supplier Part Number 1: DAC121S101QCMKX/NOPB-ND; Supplier 2: Newark; Supplier Part Number 2: 77R4449; Supplier 3: Mouser; Supplier Part Number 3: 926-D121S101QCMKXNPB; DNL(Max)(+/-LSB): 1; Eco-Plan: Green (RoHS & no Sb/Br); Settling Time(us): 8; Mounting Technology: Surface Mount; Code_JEDEC: MO-193; ComponentLink1Description: Manufacturer URL; ComponentLink1URL: http://www.ti.com/; ComponentLink2Description: Datasheet; ComponentLink2URL: http://www.ti.com/lit/ds/symlink/dac121s101-q1.pdf; ComponentLink3Description: Package Specification; ComponentLink3URL: http://www.ti.com/litv/pdf/mpds124d
footprint TI-DDC6_N (SOT23, 6-Leads, Body 2.9x1.6mm, Pitch 0.95mm, IPC Medium Density)
footprint TI-DDC6_L (SOT23, 6-Leads, Body 2.9x1.6mm, Pitch 0.95mm, IPC High Density)
footprint TI-DDC6_M (SOT23, 6-Leads, Body 2.9x1.6mm, Pitch 0.95mm, IPC Low Density)
pins: 1 VOUT (hiz) "DAC Analog Output Voltage", 2 GND (power) "Ground reference for all on-chip circuitry.", 3 VA (power) "Power supply and Reference input. Should be decoupled to GND.", 4 DIN (in) "Serial Data Input. Data is clocked into the 16-bit shift register on the falling edges of SCLK after the fall of S\Y\N\C\.", 5 SCLK (in) "Serial Clock Input. Data is clocked into the input shift register on the falling edges of this pin.", 6 ~{SYNC} (in) "Frame synchronization input for the data input. When this pin goes low, it enables the input shift register and data is transferred on the falling edges of SCLK. The DAC is updated on the 16th clock cycle unless S\Y\N\C\ is (See Datasheet)"

## DAC121S101WGMPR
designator U?
12-Bit Micro Power Digital-to-Analog Converter with Rail-to-Rail Output, -55 to 125 degC, 10-pin SOP (NAC10); Manufacturer: Texas Instruments; PartNumber: DAC121S101WGMPR; DAC Channels: 1; INL(Max)(+/-LSB): 8; Power Consumption(Typ)(mW): 0.52; Resolution(Bits): 12; Settling Time(us): 12.5; SubFamily: Precision DAC (=<10MSPS); DatasheetVersion: SNAS410E; PackageVersion: Rev. H, 02/2013; PackageReference: NAC10; PackageDescription: 10-Pin Ceramic, Metal Flat Pack, Body 6.86 x 6.12 mm, Pitch 1.27 mm; Supplier 1: Mouser; Supplier Part Number 1: N/A; DNL(Max)(+/-LSB): 1; Mounting Technology: Surface Mount; ComponentLink1Description: Manufacturer URL; ComponentLink1URL: http://www.ti.com/; ComponentLink2Description: Datasheet; ComponentLink2URL: http://www.ti.com/lit/ds/symlink/dac121s101qml-sp.pdf; ComponentLink3Description: Package Specification; ComponentLink3URL: http://www.ti.com/litv/pdf/mclg023
footprint TI-NAC10_N (CFP, 10-Leads, Body 6.86x6.12mm, Pitch 1.27mm, IPC Medium Density)
footprint TI-NAC10_L (CFP, 10-Leads, Body 6.86x6.12mm, Pitch 1.27mm, IPC High Density)
footprint TI-NAC10_M (CFP, 10-Leads, Body 6.86x6.12mm, Pitch 1.27mm, IPC Low Density)
part A pins: 1 VA (power), 4 VOUT (hiz), 7 ~{SYNC} (in), 8 SCLK (in), 9 DIN (in), 10 GND (power)
part B pins: 2 NC, 3 NC, 5 NC, 6 NC

## DAC121S101WGRQV
designator U?
12-Bit Micro Power Digital-to-Analog Converter with Rail-to-Rail Output, -55 to 125 degC, 10-pin SOP (NAC10); Manufacturer: Texas Instruments; PartNumber: DAC121S101WGRQV; DAC Channels: 1; INL(Max)(+/-LSB): 8; Power Consumption(Typ)(mW): 0.52; Resolution(Bits): 12; Settling Time(us): 12.5; SubFamily: Precision DAC (=<10MSPS); DatasheetVersion: SNAS410E; PackageVersion: Rev. H, 02/2013; PackageReference: NAC10; PackageDescription: 10-Pin Ceramic, Metal Flat Pack, Body 6.86 x 6.12 mm, Pitch 1.27 mm; DNL(Max)(+/-LSB): 1; Mounting Technology: Surface Mount; ComponentLink1Description: Manufacturer URL; ComponentLink1URL: http://www.ti.com/; ComponentLink2Description: Datasheet; ComponentLink2URL: http://www.ti.com/lit/ds/symlink/dac121s101qml-sp.pdf; ComponentLink3Description: Package Specification; ComponentLink3URL: http://www.ti.com/litv/pdf/mclg023
footprint TI-NAC10_N (CFP, 10-Leads, Body 6.86x6.12mm, Pitch 1.27mm, IPC Medium Density)
footprint TI-NAC10_L (CFP, 10-Leads, Body 6.86x6.12mm, Pitch 1.27mm, IPC High Density)
footprint TI-NAC10_M (CFP, 10-Leads, Body 6.86x6.12mm, Pitch 1.27mm, IPC Low Density)
part A pins: 1 VA (power), 4 VOUT (hiz), 7 ~{SYNC} (in), 8 SCLK (in), 9 DIN (in), 10 GND (power)
part B pins: 2 NC, 3 NC, 5 NC, 6 NC

## DAC712P
designator U?
Digital-to-Converter with 16-Bit Bus Interface, -40 to 85 degC, 28-pin DIP (NT28), Green (RoHS & no Sb/Br); Manufacturer: Texas Instruments; PartNumber: DAC712P; DAC Channels: 1; DNL(Max)(+/-LSB): 4; Interface: Parallel; Power Consumption(Typ)(mW): 525; Resolution(Bits): 16; Settling Time(us): 10; SubFamily: Precision DAC (=<10MSPS); DatasheetVersion: SBAS023A; PackageVersion: 4040050/C, 04/2009; PackageReference: NT28; PackageDescription: 28-Pin Plastic Dual-In-Line Package, Body 35.69 x 6.73 mm, Pitch 2.54 mm; Supplier 1: Digi-Key; Supplier Part Number 1: DAC712P-ND; Supplier 2: Newark; Supplier Part Number 2: 04M4506; Supplier 3: Mouser; Supplier Part Number 3: 595-DAC712P; Eco-Plan: Green (RoHS & no Sb/Br); INL(Max)(+/-LSB): 4; Mounting Technology: Through Hole; ComponentLink1Description: Manufacturer URL; ComponentLink1URL: http://www.ti.com/; ComponentLink2Description: Datasheet; ComponentLink2URL: http://www.ti.com/general/docs/lit/getliterature.tsp?genericPartNumber=DAC712&fileType=pdf; ComponentLink3Description: Package Specification; ComponentLink3URL: http://www.ti.com/lit/ml/mpdi004a/mpdi004a.pdf
footprint TI-NT28 (DIP, 28-Leads, Body 35.69x6.73mm, Pitch 2.54mm)
pins: 1 DCOM (power) "Power-Supply return for digital currents", 2 ACOM (power) "Analog Supply Return", 3 VOUT (out) "+/-10V D/A Output", 4 OFFSET ADJUST (in) "Offset Adjust (Bipolar)", 5 VREF OUT (out) "Voltage Reference Output", 6 GAIN ADJUST (in) "Gain Adjust", 7 VCC+ (power) "+12V to +15V Supply", 8 VCC- (power) "-12V to -15V Supply", 9 ~{CLR} (in) "CLEAR; Sets D/A output to Bipolar Zero (Active Low)", 10 ~{WR} (in) "Write (Active Low)", 11 ~{A1} (in) "Enable for D/A latch (Active Low)", 12 ~{A0} (in) "Enable for Input latch (Active Low)", 13 D15 (MSB) (in) "Data Bit 15 (Most Significant Bit)", 14 D14 (in) "Data Bit 14", 15 D13 (in) "Data Bit 13", 16 D12 (in) "Data Bit 12", 17 D11 (in) "Data Bit 11", 18 D10 (in) "Data Bit 10", 19 D9 (in) "Data Bit 9", 20 D8 (in) "Data Bit 8", 21 D7 (in) "Data Bit 7", 22 D6 (in) "Data Bit 6", 23 D5 (in) "Data Bit 5", 24 D4 (in) "Data Bit 4", 25 D3 (in) "Data Bit 3", 26 D2 (in) "Data Bit 2", 27 D1 (in) "Data Bit 1", 28 D0 (LSB) (in) "Data Bit 0 (Least Significant Bit)"

## DAC712PB
designator U?
Digital-to-Converter with 16-Bit Bus Interface, -40 to 85 degC, 28-pin DIP (NT28), Green (RoHS & no Sb/Br); Manufacturer: Texas Instruments; PartNumber: DAC712PB; DAC Channels: 1; DNL(Max)(+/-LSB): 2; Interface: Parallel; Power Consumption(Typ)(mW): 525; Resolution(Bits): 16; Settling Time(us): 10; SubFamily: Precision DAC (=<10MSPS); DatasheetVersion: SBAS023A; PackageVersion: 4040050/C, 04/2009; PackageReference: NT28; PackageDescription: 28-Pin Plastic Dual-In-Line Package, Body 35.69 x 6.73 mm, Pitch 2.54 mm; Supplier 1: Digi-Key; Supplier Part Number 1: DAC712PB-ND; Supplier 2: Farnell; Supplier Part Number 2: 1460189; Supplier 3: Newark; Supplier Part Number 3: 61M5730; Supplier 4: Mouser; Supplier Part Number 4: 595-DAC712PB; Eco-Plan: Green (RoHS & no Sb/Br); INL(Max)(+/-LSB): 2; Mounting Technology: Through Hole; ComponentLink1Description: Manufacturer URL; ComponentLink1URL: http://www.ti.com/; ComponentLink2Description: Datasheet; ComponentLink2URL: http://www.ti.com/general/docs/lit/getliterature.tsp?genericPartNumber=DAC712&fileType=pdf; ComponentLink3Description: Package Specification; ComponentLink3URL: http://www.ti.com/lit/ml/mpdi004a/mpdi004a.pdf
footprint TI-NT28 (DIP, 28-Leads, Body 35.69x6.73mm, Pitch 2.54mm)
pins: 1 DCOM (power) "Power-Supply return for digital currents", 2 ACOM (power) "Analog Supply Return", 3 VOUT (out) "+/-10V D/A Output", 4 OFFSET ADJUST (in) "Offset Adjust (Bipolar)", 5 VREF OUT (out) "Voltage Reference Output", 6 GAIN ADJUST (in) "Gain Adjust", 7 VCC+ (power) "+12V to +15V Supply", 8 VCC- (power) "-12V to -15V Supply", 9 ~{CLR} (in) "CLEAR; Sets D/A output to Bipolar Zero (Active Low)", 10 ~{WR} (in) "Write (Active Low)", 11 ~{A1} (in) "Enable for D/A latch (Active Low)", 12 ~{A0} (in) "Enable for Input latch (Active Low)", 13 D15 (MSB) (in) "Data Bit 15 (Most Significant Bit)", 14 D14 (in) "Data Bit 14", 15 D13 (in) "Data Bit 13", 16 D12 (in) "Data Bit 12", 17 D11 (in) "Data Bit 11", 18 D10 (in) "Data Bit 10", 19 D9 (in) "Data Bit 9", 20 D8 (in) "Data Bit 8", 21 D7 (in) "Data Bit 7", 22 D6 (in) "Data Bit 6", 23 D5 (in) "Data Bit 5", 24 D4 (in) "Data Bit 4", 25 D3 (in) "Data Bit 3", 26 D2 (in) "Data Bit 2", 27 D1 (in) "Data Bit 1", 28 D0 (LSB) (in) "Data Bit 0 (Least Significant Bit)"